# Altium footprint library 5754.PcbLib: 1 footprints
Each footprint in its own frame and in the unit in brackets; x right, y up, seen from the top. Pads: shape width x height; smd on the part's side, far side on the other; paste and mask are expansions set on the pad; w line width, h text height; cw(c..) or ccw(c..) is an arc to the next point about the centre after c.
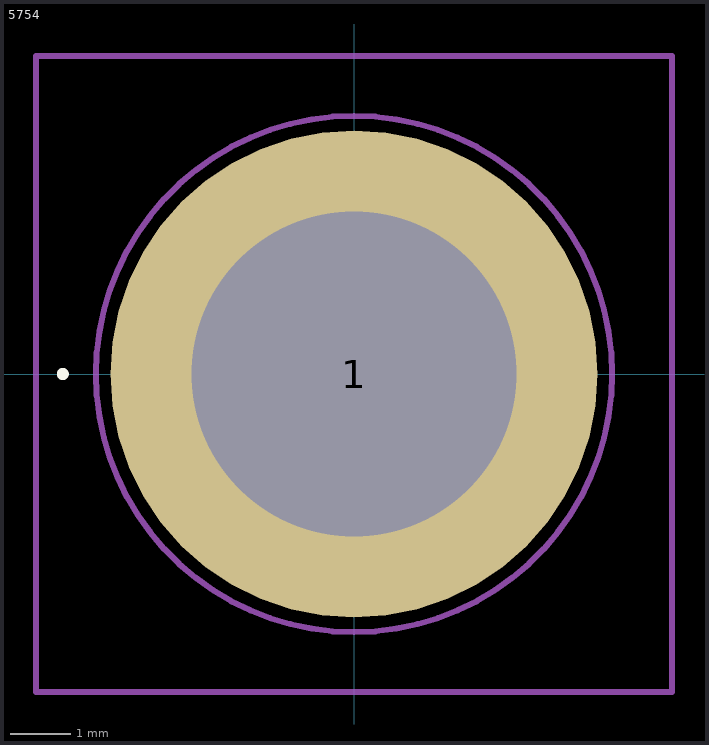
[diagram p0: the footprint, top view; thin cyan lines are the x and y axes]

## 5754 [mm]
pads (1):
  round 8.115 hole 5.41: 1(0,0)
Top Overlay:
  lines w0.1: -4.9,0 ccw(c-4.85,0) -4.8,0 ccw(c-4.85,0) -4.9,0
Mechanical 15:
  lines w0.1: 0,-4.3 cw(c0,0) 0,4.3 cw(c0,0) 0,-4.3
Mechanical 20:
  lines w0.1: -5.3,-5.3 -5.3,5.3 5.3,5.3 5.3,-5.3 -5.3,-5.3
3D body "575-4.stp": height 2.36, standoff -5.54, extent -3.962,-3.962 3.962,3.962